# Altium footprint library SM18B-ZPDSS-TF.PcbLib: 1 footprints
Each footprint in its own frame and in the unit in brackets; x right, y up, seen from the top. Pads: shape width x height; smd on the part's side, far side on the other; paste and mask are expansions set on the pad; w line width, h text height; cw(c..) or ccw(c..) is an arc to the next point about the centre after c.
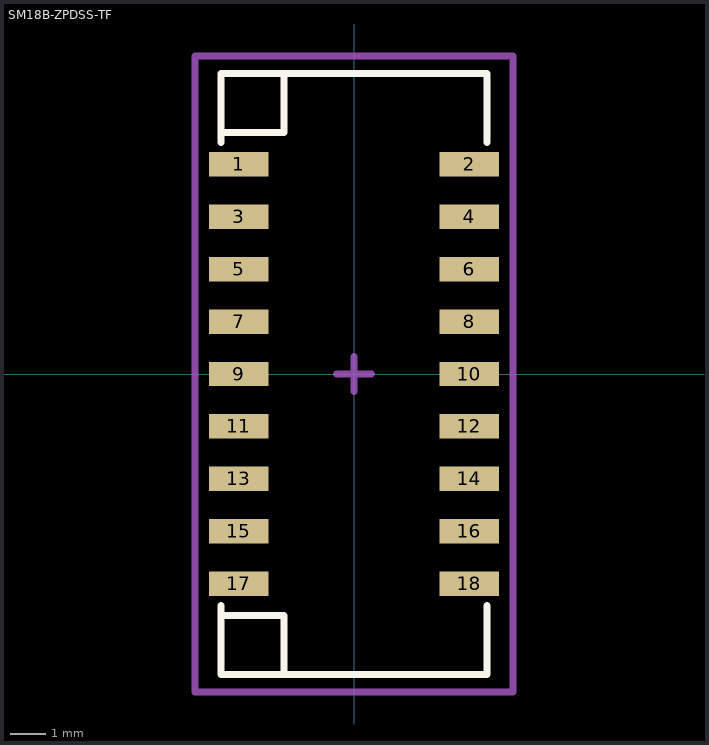
[diagram p0: the footprint, top view; thin cyan lines are the x and y axes]

## SM18B-ZPDSS-TF [mm]
pads (18):
  rect 1.7x0.7 smd: 1(-3.3,6) 2(3.3,6) 3(-3.3,4.5) 4(3.3,4.5) 5(-3.3,3) 6(3.3,3) 7(-3.3,1.5) 8(3.3,1.5) 9(-3.3,0) 10(3.3,0) 11(-3.3,-1.5) 12(3.3,-1.5) 13(-3.3,-3) 14(3.3,-3) 15(-3.3,-4.5) 16(3.3,-4.5) 17(-3.3,-6) 18(3.3,-6)
Top Overlay:
  lines w0.2: -3.8,-6.9 -2,-6.9 -2,-8.587 ; -3.8,-6.625 -3.8,-8.6 3.8,-8.6 3.8,-6.625 ; -3.8,6.625 -3.8,8.6 3.8,8.6 3.8,6.625 ; -3.8,6.9 -2,6.9 -2,8.587
Mechanical 15:
  lines w0.2: -0.5,0 0.5,0 ; 0,-0.5 0,0.5 ; 4.547,9.1 -4.55,9.1 -4.55,-9.093 -4.547,-9.097 -4.547,-9.1 4.55,-9.1 4.55,9.1
3D body "SM18B-ZPDSS-TF.STEP": height 8, standoff 0, extent -3.8,-8.6 3.8,8.6